# EAGLE library part HA5002 (library opamps)
HA5002: High speed high current buffer (Harris) ±15V, ±220mA, 10µA bias 30mV offset, 110MHz UGF
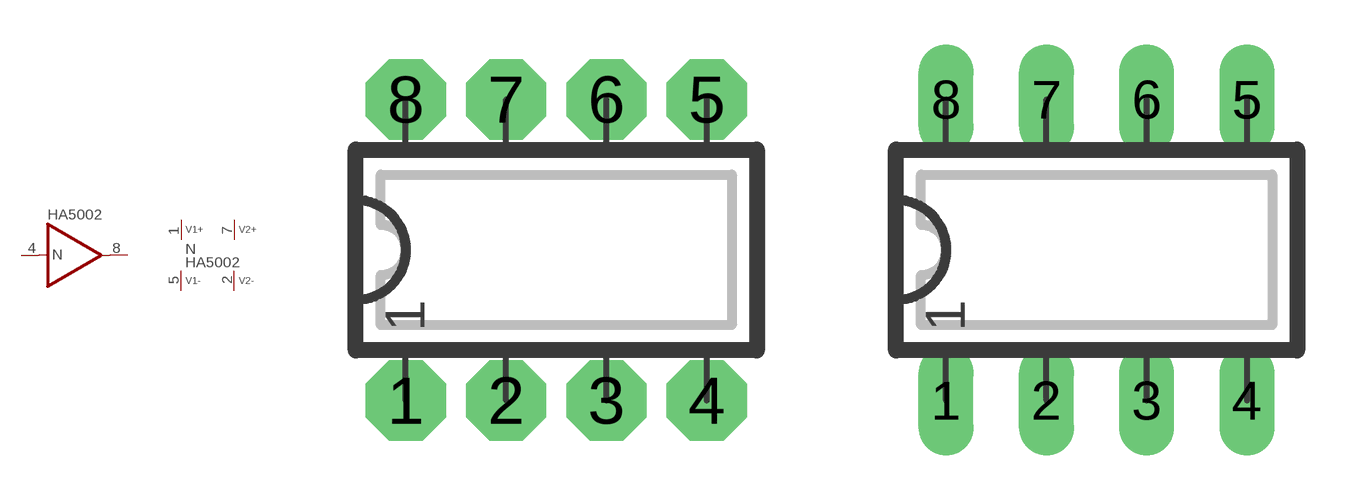
[diagram p205: symbol with the pads of DIP08N; footprints DIP08N, DIP08L]

Designator prefix N; gates P=V2+2- A=BUF_4

## HA5002N  [DIP08N]
1  P:V1+  pwr
2  P:V2-  pwr
4  A:IN  in
5  P:V1-  pwr
7  P:V2+  pwr
8  A:OUT  out

## HA5002L  [DIP08L]
Pads as for DIP08N

## HA5002R  [DIP08R]
Pads as for DIP08N

## HA5002  [DIP08L]
Pads as for DIP08N

## Footprint DIP08N (pad centres in mm)
DIP-8 Standard IC package, 8 pins
drill 0.813 pad 2.032 octagon: 1 -3.81,-3.81; 2 -1.27,-3.81; 3 1.27,-3.81; 4 3.81,-3.81; 5 3.81,3.81; 6 1.27,3.81; 7 -1.27,3.81; 8 -3.81,3.81

## Footprint DIP08L (pad centres in mm)
DIP-8, long pads Standard IC package, 8 pins
drill 0.813 pad 1.397 long: 1 -3.81,-3.81; 2 -1.27,-3.81; 3 1.27,-3.81; 4 3.81,-3.81; 5 3.81,3.81; 6 1.27,3.81; 7 -1.27,3.81; 8 -3.81,3.81

## Footprint DIP08R (pad centres in mm)
DIP-8, reduced pads Standard IC package, 8 pins
drill 0.813 pad 1.397 square: 1 -3.81,-3.81; 2 -1.27,-3.81; 3 1.27,-3.81; 4 3.81,-3.81; 5 3.81,3.81; 6 1.27,3.81; 7 -1.27,3.81; 8 -3.81,3.81